# Altium schematic symbol library ADP322.SchLib: 1 symbol
Pins are listed as number, name and electrical type; pins without a type are passive.

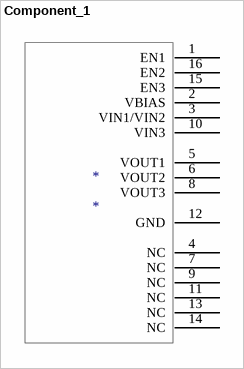
[diagram p0: symbol Component_1]

## Component_1
designator *
footprint QFN16_N (Footprint not found)
pins: 1 EN1, 2 VBIAS, 3 VIN1/VIN2, 4 NC, 5 VOUT1, 6 VOUT2, 7 NC, 8 VOUT3, 9 NC, 10 VIN3, 11 NC, 12 GND, 13 NC, 14 NC, 15 EN3, 16 EN2